# Altium footprint library 6_to_14_Pin.PcbLib: 65 footprints (part 3 of 5)
Each footprint in its own frame and in the unit in brackets; x right, y up, seen from the top. Pads: shape width x height; smd on the part's side, far side on the other; paste and mask are expansions set on the pad; w line width, h text height; cw(c..) or ccw(c..) is an arc to the next point about the centre after c.
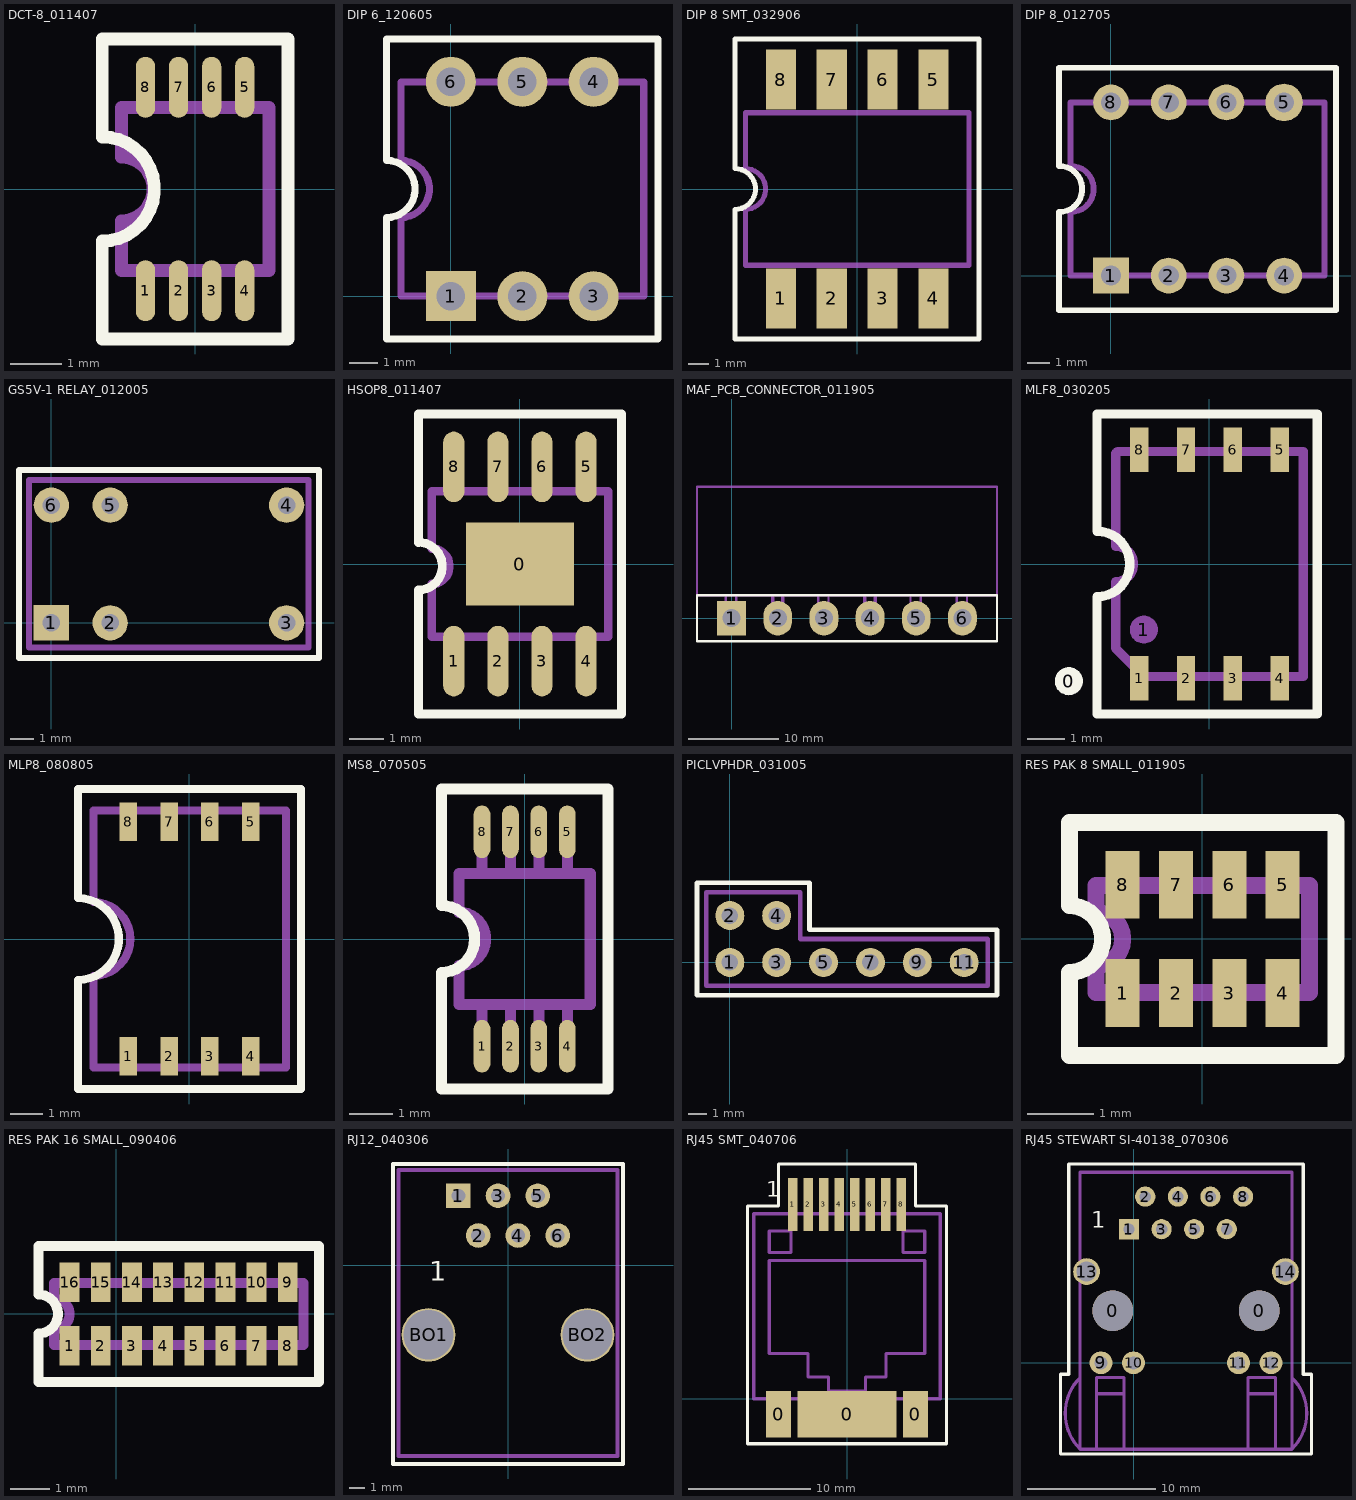
[diagram p2: the footprints below, top view; thin cyan lines are the x and y axes]

## DCT-8_011407 [mm] "SMT"
height 1.3
pads (8):
  oval 0.38x1.2 smd mask+0.038: 1(-0.975,-2) 2(-0.325,-2) 3(0.325,-2) 4(0.975,-2) 5(0.975,2) 6(0.325,2) 7(-0.325,2) 8(-0.975,2)
Top Overlay:
  lines w0.254: -1.825,-2.95 -1.825,-1.025 ccw(c-1.825,0) -1.825,1.025 -1.825,2.95 0,2.95 1.825,2.95 1.825,0.775 1.825,0 1.825,-0.775 1.825,-2.95 0,-2.95 -1.825,-2.95
Assembly Outline:
  lines w0.254: -1.225,-1.6 -1.45,-1.6 ; -1.1,1.6 -1.45,1.6 ; -0.975,-2 -0.975,-1.6 ; -0.975,1.6 -0.975,2 ; -0.325,-2 -0.325,-1.6 ; -0.325,1.6 -0.325,2 ; 0,-1.6 -1.45,-1.6 ; 0.325,-2 0.325,-1.6 ; 0.325,1.6 0.325,2 ; 0.975,-2 0.975,-1.6 ; 0.975,1.6 0.975,2 ; 1.45,-1.3 1.45,-1.6 ; -1.45,-1.6 1.45,-1.6 ; -1.45,-1.6 -1.45,-0.625 ccw(c-1.45,0) -1.45,0.625 -1.45,1.6 ; -1.45,1.6 0.675,1.6 1.45,1.6 1.45,-1.6
Assembly Designator:
  text ".Designator" at -0.5,-0.425 h1.02
Assembly Comment:
  text ".Comment" at -2.875,-4.35 h1.02

## DIP 6_120605 [mil] "TH"
height 160
pads (6):
  rect 70x70 hole 40: 1(0,0)
  round 70 hole 40: 2(100,0) 3(200,0) 4(200,300) 5(100,300) 6(0,300)
Top Overlay:
  lines w10: -90,-60 -90,110 ccw(c-90,150) -90,190 -90,360 0,360 290,360 290,-60 -90,-60
Assembly Outline:
  lines w10: -70,0 -70,110 ccw(c-70,150) -70,190 -70,300 270,300 270,0 -70,0
Assembly Designator:
  text ".Designator" at 54.13,134.84 h40
Assembly Comment:
  text ".Comment" at -36.42,62.01 h40

## DIP 8 SMT_032906 [mm] "TH"
height 3.6
pads (8):
  rect 1.5x3 smd: 1(-3.81,-5.461) 2(-1.27,-5.461) 3(1.27,-5.461) 4(3.81,-5.461) 5(3.81,5.461) 6(1.27,5.461) 7(-1.27,5.461) 8(-3.81,5.461)
Top Overlay:
  lines w0.254: -6.096,-7.493 -6.096,-5.334 -6.096,-1.016 ccw(c-6.096,0) -6.096,1.016 -6.096,5.334 -6.096,7.493 6.096,7.493 6.096,5.334 6.096,-5.334 6.096,-7.493 -6.096,-7.493
Assembly Outline:
  lines w0.254: -5.588,-3.81 3.81,-3.81 5.588,-3.81 5.588,3.81 3.81,3.81 -5.588,3.81 -5.588,1.016 cw(c-5.588,0) -5.588,-1.016 -5.588,-3.81
Assembly Designator:
  text ".Designator" at -2.184,-0.533 h1.02
Assembly Comment:
  text ".Comment" at -4.801,-2.489 h1.02

## DIP 8_012705 [mil] "TH"
height 160
pads (8):
  rect 62x62 hole 35: 1(0,0)
  round 62 hole 35: 2(100,0) 3(200,0) 4(300,0) 6(200,300) 7(100,300) 8(0,300)
  round 65 hole 35: 5(300,300)
Top Overlay:
  lines w10: -90,-60 390,-60 390,360 0,360 -90,360 -90,190 cw(c-90,150) -90,110 -90,-60
Assembly Outline:
  lines w10: -70,0 300,0 370,0 370,300 300,300 -70,300 -70,190 cw(c-70,150) -70,110 -70,0
Assembly Designator:
  text ".Designator" at 64,129 h40
Assembly Comment:
  text ".Comment" at -39,52 h40

## GS5V-1 RELAY_012005 [mil] "TH"
height 390
pads (6):
  rect 60x60 hole 30: 1(0,0)
  round 60 hole 30: 2(100,0) 3(400,0) 4(400,200) 5(100,200) 6(0,200)
Top Overlay:
  lines w10: -55,-60 -55,260 120,260 455,260 455,-60 -55,-60
Assembly Outline:
  lines w10: -38,-42 -38,243 437,243 437,-42 -38,-42
Assembly Designator:
  text ".Designator" at 149,87 h40
Assembly Comment:
  text ".Comment" at -3,-21 h40

## HSOP8_011407 [mil] "SMT"
height 66.93
pads (9):
  rect 122.05x94.49 smd: 0(0,0)
  oval 24x80 smd: 1(-75,-110) 2(-25,-110) 3(25,-110) 4(75,-110) 5(75,110) 6(25,110) 7(-25,110) 8(-75,110)
Top Overlay:
  lines w10: -115,-170 -115,-29.54 ccw(c-115,-2.5) -115,24.54 -115,170 115,170 115,-170 -115,-170
Assembly Outline:
  lines w10: -80,-82.5 -80,-110 -70,-110 -70,-82.5 ; -80,82.5 -80,110 -70,110 -70,82.5 ; -30,-82.5 -30,-110 -20,-110 -20,-82.5 ; -30,82.5 -30,110 -20,110 -20,82.5 ; 20,-82.5 20,-110 30,-110 30,-82.5 ; 20,82.5 20,110 30,110 30,82.5 ; 70,-82.5 70,-110 80,-110 80,-82.5 ; 70,82.5 70,110 80,110 80,82.5 ; -100,-82.5 -100,-22.5 ccw(c-100,-2.5) -100,17.5 -100,82.5 100,82.5 100,-82.5 -100,-82.5
Assembly Designator:
  text ".Designator" at -55,22 h40
Assembly Comment:
  text ".Comment" at -116,-192 h40

## MAF_PCB_CONNECTOR_011905 [mil] "FEATURE TH PCB"
pads (6):
  rect 125x150 hole 78: 1(0,0)
  oval 125x150 hole 78: 2(200,0) 3(400,0) 4(600,0) 5(800,0) 6(1000,0)
Top Overlay:
  lines w10: -150,-100 1150,-100 1150,100 -150,100 -150,-100
Assembly Outline:
  lines w10: -25,100 -25,0 20,0 20,100 ; 175,100 175,0 220,0 220,100 ; 180,100 180,0 225,0 225,100 ; 575,100 575,0 620,0 620,100 ; 975,100 975,0 1020,0 1020,100 ; 375,0 375,100 375,0 ; 375,0 420,0 ; 375,0 420,0 ; 420,0 420,100 420,0 ; 580,0 580,100 580,0 ; 580,0 625,0 ; 580,0 625,0 ; 625,0 625,100 625,0 ; 775,0 775,100 ; 775,0 820,0 ; 775,0 775,100 ; 775,0 820,0 ; 775,0 775,100 ; 775,0 820,0 ; 820,0 820,100 ; 820,0 820,100 ; 820,0 820,100 ; -150,100 -150,570 1150,570 1150,100 -150,100
Assembly Designator:
  text ".Designator" at 445,-114 h40
Assembly Comment:
  text ".Comment" at 496,120 h40

## MLF8_030205 [mm] "SMT"
height 1.016
pads (10):
  round 0.762 on Top Overlay paste+0 mask+0.051: 0(-3.81,-3.175)
  rect 0.5x1.2 smd paste+0 mask+0.051: 1(-1.905,-3.099) 2(-0.635,-3.099) 3(0.635,-3.099) 4(1.905,-3.099) 5(1.905,3.099) 6(0.635,3.099) 7(-0.635,3.099) 8(-1.905,3.099)
  round 0.762 on Mech1 paste+0 mask+0.051: 1(-1.778,-1.778)
Top Overlay:
  lines w0.254: -3.048,-4.064 -3.048,-0.889 ccw(c-3.048,0) -3.048,0.889 -3.048,4.064 2.921,4.064 2.921,-4.064 -2.54,-4.064 -3.048,-4.064
Assembly Outline:
  lines w0.254: -2.54,-2.286 -1.778,-3.048 2.54,-3.048 2.54,3.048 -2.489,3.048 -2.54,2.997 -2.54,0.483 cw(c-2.54,0) -2.54,-0.483 -2.54,-2.286
Assembly Designator:
  text ".Designator" at 0.432,-1.168 h1.02
Assembly Comment:
  text ".Comment" at 2.108,-2.54 h1.02

## MLP8_080805 [mm] "SMT"
height 1.016
pads (8):
  rect 0.55x1.2 smd mask+0.051: 1(-1.905,-3.658) 2(-0.635,-3.658) 3(0.635,-3.658) 4(1.905,-3.658) 5(1.905,3.658) 6(0.635,3.658) 7(-0.635,3.658) 8(-1.905,3.658)
Top Overlay:
  lines w0.254: -3.475,-4.675 0,-4.675 3.475,-4.675 3.475,0 3.475,4.675 0,4.675 -3.475,4.675 -3.475,1.275 cw(c-3.475,0) -3.475,-1.275 -3.475,-4.675
Assembly Outline:
  lines w0.254: 0.006,-4 -2.994,-4 ; -2.994,-4 -2.994,-1.15 ccw(c-2.994,0) -2.994,1.15 -2.994,4 3.006,4 3.006,-4 -2.994,-4
Assembly Designator:
  text ".Designator" at -0.95,-0.475 h1.02
Assembly Comment:
  text ".Comment" at -2.6,-2.5 h1.02

## MS8_070505 [mm] "SMT"
height 0.889
pads (8):
  oval 0.38x1.2 smd mask+0.038: 1(-0.975,-2.45) 2(-0.325,-2.45) 3(0.325,-2.45) 4(0.975,-2.45) 5(0.975,2.45) 6(0.325,2.45) 7(-0.325,2.45) 8(-0.975,2.45)
Top Overlay:
  lines w0.254: -1.905,-3.429 -1.905,-0.762 ccw(c-1.905,0) -1.143,0 ccw(c-1.905,0) -1.905,0.762 -1.905,3.429 1.905,3.429 1.905,0 1.905,-3.429 -1.905,-3.429
Assembly Outline:
  lines w0.254: -0.975,-2.45 -0.975,-1.5 ; -0.975,1.5 -0.975,2.45 ; -0.325,-2.45 -0.325,-1.5 ; -0.325,1.5 -0.325,2.45 ; 0.325,-2.45 0.325,-1.5 ; 0.325,1.5 0.325,2.45 ; 0.975,-2.45 0.975,-1.5 ; 0.975,1.5 0.975,2.45 ; -1.5,-1.5 -1.5,-0.611 ccw(c-1.5,0) -1.5,0.611 -1.5,1.5 1.5,1.5 1.5,-1.5 -1.5,-1.5
Assembly Designator:
  text ".Designator" at -0.508,-0.381 h1.02
Assembly Comment:
  text ".Comment" at -1.778,-4.826 h1.02

## PICLVPHDR_031005 [mil] "FEATURE SMT PCB"
pads (8):
  round 62 hole 35: 1(0,0) 2(0,100) 3(100,0) 4(100,100) 5(200,0) 7(300,0) 9(400,0) 11(500,0)
Top Overlay:
  lines w10: -70,-70 -70,170 140,170 170,170 170,70 570,70 570,-70 -70,-70
Assembly Outline:
  lines w8: -12,-12 13,-12 13,13 -12,13 -12,-12 ; -12,88 13,88 13,113 -12,113 -12,88 ; 88,-12 113,-12 113,13 88,13 88,-12 ; 88,88 113,88 113,113 88,113 88,88 ; 188,-12 213,-12 213,13 188,13 188,-12 ; 288,-12 313,-12 313,13 288,13 288,-12 ; 388,-12 413,-12 413,13 388,13 388,-12 ; 488,-12 513,-12 513,13 488,13 488,-12
  lines w10: -50,-50 -50,150 0,150 150,150 150,50 550,50 550,-50 -50,-50
Assembly Designator:
  text ".Designator" at -4,33 h40
Assembly Comment:
  text ".Comment" at 192,87 h40

## RES PAK 8 SMALL_011905 [mil] "SMT"
height 16
pads (8):
  rect 20x40 smd mask+1.5: 1(-47,-32) 2(-15.5,-32) 3(15.99,-32) 4(47.49,-32) 5(47.49,32) 6(15.99,32) 7(-15.5,32) 8(-47,32)
Top Overlay:
  lines w10: -78.5,-69 -78.5,-19.78 ccw(c-78.5,-0.1) -78.5,19.59 -78.5,68.8 12.05,68.8 78.98,68.8 78.98,-69 -78.5,-69
Assembly Outline:
  lines w10: -62.75,-31.59 -62.75,-15.85 ccw(c-62.75,-0.1) -62.75,15.65 -62.75,31.4 63.24,31.4 63.24,-31.59 -62.75,-31.59
Assembly Designator:
  text ".Designator" at -80,-32 h40
Assembly Comment:
  text ".Comment" at -61,43 h40

## RES PAK 16 SMALL_090406 [mil] "SMT"
height 16
pads (16):
  rect 20x40 smd mask+1.5: 1(-47,-32) 2(-15.5,-32) 3(15.99,-32) 4(47.49,-32) 5(78.98,-32) 6(110.48,-32) 7(141.98,-32) 8(173.47,-32) 9(173.47,32) 10(141.98,32) 11(110.48,32) 12(78.98,32) 13(47.49,32) 14(15.99,32) 15(-15.5,32) 16(-47,32)
Top Overlay:
  lines w10: 204.97,-69 204.97,68.8 ; 205,-69 -78.5,-69 -78.5,-19.78 ccw(c-78.5,-0.1) -78.5,19.59 -78.5,68.8 12.05,68.8 205,68.8
Assembly Outline:
  lines w10: -62.75,-31.59 189.22,-31.59 189.22,31.4 -62.75,31.4 -62.75,15.65 cw(c-62.75,-0.1) -62.75,-15.85 -62.75,-31.59
Assembly Designator:
  text ".Designator" at 5,-20 h40
Assembly Comment:
  text ".Comment" at -90,90 h40

## RJ12_040306 [mil] "TH"
height 600
pads (8):
  rect 62x62 hole 35: 1(-125,175)
  round 62 hole 35: 2(-75,75) 3(-25,175) 4(25,75) 5(75,175) 6(125,75)
  round 135 hole 125: BO1(-200,-175) BO2(200,-175)
Top Overlay:
  lines w10: 230,255 290,255 ; 290,255 290,-500 235,-500 -290,-500 -290,255 35,255 290,255
  text "1" at -197.84,-39.13 h50
Assembly Outline:
  lines w10: -275,-480 -275,240 275,240 275,-175 275,-480 -275,-480
Assembly Designator:
  text ".Designator" at -65,-195 h40
Assembly Comment:
  text ".Comment" at -155,-345 h40

## RJ45 SMT_040706 [mil] "SMT"
height 510
pads (11):
  rect 80x150 smd: 0(-220,-50) 0(220,-50)
  rect 320x150 smd: 0(0,-50)
  rect 30x170 smd mask+1.5: 1(-175,625) 2(-125,625) 3(-75,625) 4(-25,625) 5(25,625) 6(75,625) 7(125,625) 8(175,625)
Top Overlay:
  lines w10: -320,-145 -320,-20 -320,390 -320,620 -220,620 -220,755 0,755 220,755 220,620 320,620 320,390 320,-20 320,-145 -320,-145
  text "1" at -260,650 h50
Assembly Outline:
  lines w10: -250,0 -250,-80 -190,-80 -190,0 ; -180,595 -180,675 -170,675 -170,595 ; -150,0 -150,-90 0,-90 150,-90 150,0 ; -130,595 -130,675 -120,675 -120,595 ; -80,595 -80,675 -70,675 -70,595 ; -30,595 -30,675 -20,675 -20,595 ; 20,595 20,675 30,675 30,595 ; 70,595 70,675 80,675 80,595 ; 120,595 120,675 130,675 130,595 ; 170,595 170,675 180,675 180,595 ; 190,0 190,-80 250,-80 250,0 300,0 ; 300,470 300,595 ; 300,0 -300,0 -300,595 300,595 ; 300,0 300,595 ; -250,145 -125,145 -125,70 -60,70 -60,25 0,25 60,25 60,70 125,70 125,145 250,145 250,445 0,445 -250,445 -250,145 ; -250,470 -250,540 -180,540 -180,470 -250,470 ; 180,470 180,540 250,540 250,470 180,470
Assembly Designator:
  text ".Designator" at -50,305 h40
Assembly Comment:
  text ".Comment" at -130,240 h40

## RJ45 STEWART SI-40138_070306 [mil] "TH"
height 600
pads (16):
  round 125 hole 125 unplated: 0(-64,160) 0(386,160)
  rect 62x62 hole 35: 1(-14,410)
  round 62 hole 35: 2(36,510) 3(86,410) 4(136,510) 5(186,410) 6(236,510) 7(286,410) 8(336,510)
  round 70 hole 40: 9(-100,0) 10(0,0) 11(322,0) 12(422,0)
  round 82 hole 62 unplated: 13(-144,280) 14(466,280)
Top Overlay:
  lines w10: -224,-280 161,-280 546,-280 546,-35 521,-35 521,345 521,610 -199,610 -199,345 -199,-35 -224,-35 -224,-280
  text "1" at -129,415 h50
Assembly Outline:
  lines w10: -164,-45 ccw(c-54,-155) -164,-265 ; -114,-265 -114,-45 -29,-45 ; -114,-95 -29,-95 -29,-45 ; -29,-265 -29,-45 ; 351,-265 351,-45 ; 436,-95 351,-95 351,-45 ; 486,-155 486,-265 ; -164,-265 -164,-91 -164,344 -164,585 486,585 486,344 486,-91 486,-265 ; -164,-265 486,-265 ; 351,-45 436,-45 436,-265 486,-265 ; 486,-265 ccw(c376,-155) 486,-45 486,-265
Assembly Designator:
  text ".Designator" at 123.5,255 h40
Assembly Comment:
  text ".Comment" at 61,190 h40